# EAGLE library part WIRINGSHIELD (library suspectdeviceshares)
Wiring S Shield
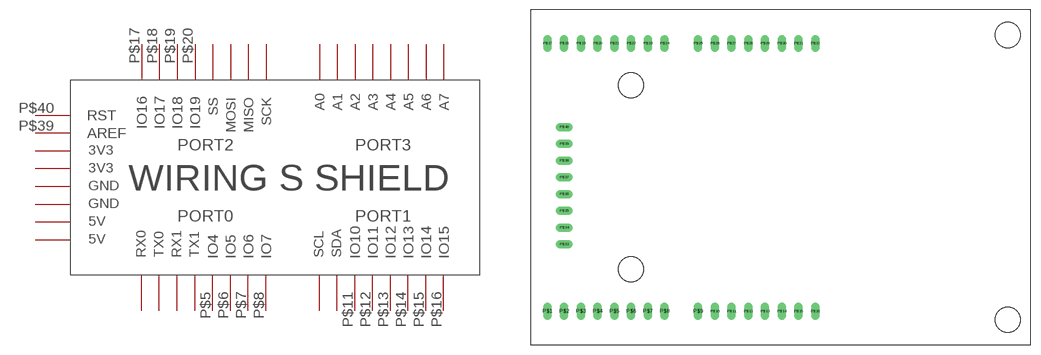
[diagram p0: symbol with the pads of WIRINGSHIELD; footprint WIRINGSHIELD]

Designator prefix -

## WIRINGSHIELD  [WIRINGSHIELD]
P$1  IO0
P$2  IO1
P$3  IO2
P$4  IO3
P$5  IO4
P$6  IO5
P$7  IO6
P$8  IO7
P$9  IO8
P$10  IO9
P$11  IO10
P$12  IO11
P$13  IO12
P$14  IO13
P$15  IO14
P$16  IO15
P$17  IO16
P$18  IO17
P$19  IO18
P$20  IO19
P$21  IO20
P$22  IO21
P$23  IO22
P$24  IO23
P$25  IO24
P$26  IO25
P$27  IO26
P$28  IO27
P$29  IO28
P$30  IO29
P$31  IO30
P$32  IO31
P$33  5V  pwr
P$34  5V  pwr
P$35  GND  pwr
P$36  GND  pwr
P$37  3V3  pwr
P$38  3V3  pwr
P$39  AREF
P$40  RST

## Footprint WIRINGSHIELD (pad centres in mm)
drill 0.8 long: P$1 2.54,5.08; P$2 5.08,5.08; P$3 7.62,5.08; P$4 10.16,5.08; P$5 12.7,5.08; P$6 15.24,5.08; P$7 17.78,5.08; P$8 20.32,5.08; P$9 25.4,5.08; P$10 27.94,5.08; P$11 30.48,5.08; P$12 33.02,5.08; P$13 35.56,5.08; P$14 38.1,5.08; P$15 40.64,5.08; P$16 43.18,5.08; P$17 2.54,45.72; P$18 5.08,45.72; P$19 7.62,45.72; P$20 10.16,45.72; P$21 12.7,45.72; P$22 15.24,45.72; P$23 17.78,45.72; P$24 20.32,45.72; P$25 25.4,45.72; P$26 27.94,45.72; P$27 30.48,45.72; P$28 33.02,45.72; P$29 35.56,45.72; P$30 38.1,45.72; P$31 40.64,45.72; P$32 43.18,45.72; P$33 5.08,15.24; P$34 5.08,17.78; P$35 5.08,20.32; P$36 5.08,22.86; P$37 5.08,25.4; P$38 5.08,27.94; P$39 5.08,30.48; P$40 5.08,33.02
hole 3.81 at 15.24,11.43
hole 3.81 at 15.24,39.37
hole 3.81 at 72.39,46.99
hole 3.81 at 72.39,3.81